# Altium schematic symbol library mcp2200_i_so.SchLib: 1 symbol
Pins are listed as number, name and electrical type; pins without a type are passive.

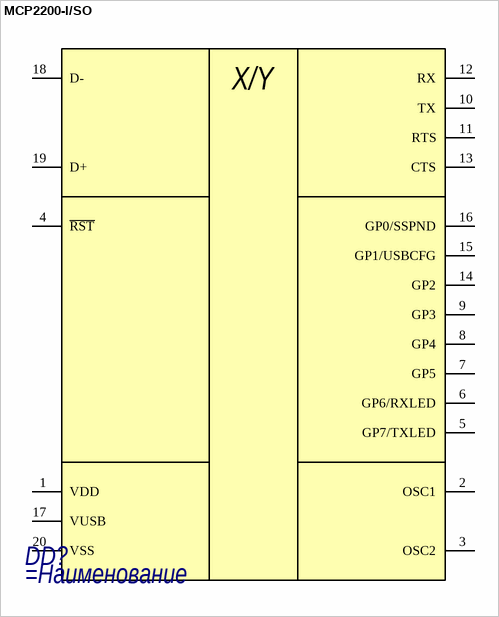
[diagram p0: symbol MCP2200-l/SO]

## MCP2200-l/SO
designator DD?
=Описание
pins: 1 VDD, 2 OSC1, 3 OSC2, 4 ~{RST}, 5 GP7/TXLED, 6 GP6/RXLED, 7 GP5, 8 GP4, 9 GP3, 10 TX, 11 RTS, 12 RX, 13 CTS, 14 GP2, 15 GP1/USBCFG, 16 GP0/SSPND, 17 VUSB, 18 D-, 19 D+, 20 VSS
text: X/Y